# EAGLE library part UX60S (library mibe)
UX60S Series - Mini-B Connectors, SMT mount receptacles meeting requirements of USB 2.0 Standard
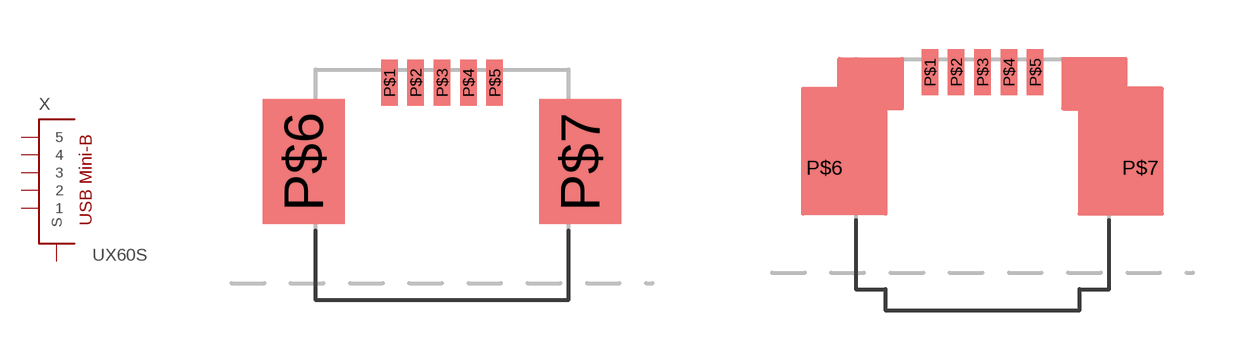
[diagram p1: symbol with the pads of UX60SC-MB-5ST; footprints UX60SC-MB-5ST, UX60SA-MB-5ST]

Designator prefix X

## UX60SC-MB-5ST  [UX60SC-MB-5ST]
P$1  1  pas
P$2  2  pas
P$3  3  pas
P$4  4  pas
P$5  5  pas
P$6  S  pas
P$7  S  pas

## UX60SA-MB-5ST  [UX60SA-MB-5ST]
Pads as for UX60SC-MB-5ST

## Footprint UX60SC-MB-5ST (pad centres in mm)
smd 0.5 x 1.4: P$1 -1.6,6.1; P$2 -0.8,6.1; P$3 0,6.1; P$4 0.8,6.1; P$5 1.6,6.1
smd 2.5 x 3.8: P$6 -4.2,3.7; P$7 4.2,3.7

## Footprint UX60SA-MB-5ST (pad centres in mm)
smd 0.5 x 1.4: P$1 -1.6,6.1; P$2 -0.8,6.1; P$3 0,6.1; P$4 0.8,6.1; P$5 1.6,6.1
smd 1 x 1: P$6 -4.8,3.2; P$7 4.8,3.2